# Altium schematic symbol library LVDS bridge.SchLib: 2 symbols
Pins are listed as number, name and electrical type; pins without a type are passive.

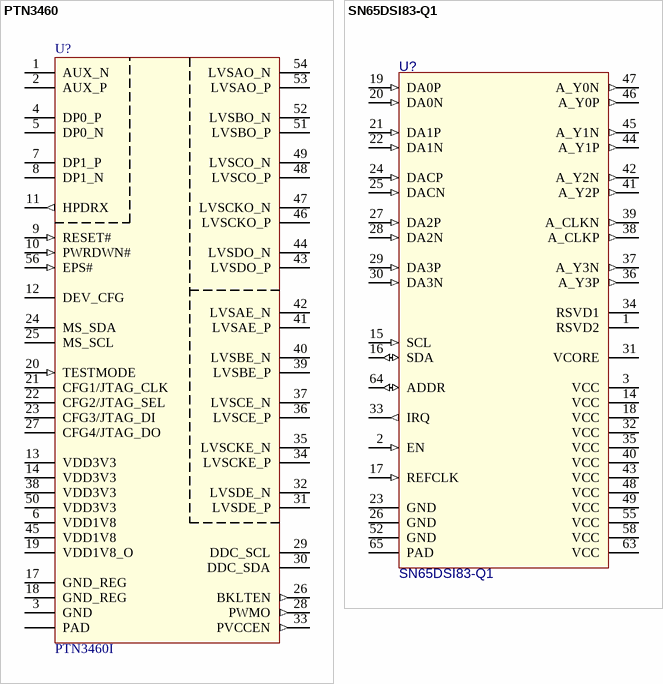
[diagram p0: symbols PTN3460 to SN65DSI83-Q1]

## PTN3460
designator U?, comment PTN3460I
eDP to LVDS bridge for industrial and embedded applications; value: PTN3460I
footprint HVQFN56 (SOT949-2) (Footprint not found)
pins: 1 AUX_N, 2 AUX_P, 3 GND (power), 4 DP0_P, 5 DP0_N, 6 VDD1V8 (power), 7 DP1_P, 8 DP1_N, 9 RESET# (in), 10 PWRDWN# (in), 11 HPDRX (out), 12 DEV_CFG, 13 VDD3V3 (power), 14 VDD3V3 (power), 17 GND_REG (power), 18 GND_REG (power), 19 VDD1V8_O, 20 TESTMODE (in), 21 CFG1/JTAG_CLK, 22 CFG2/JTAG_SEL, 23 CFG3/JTAG_DI, 24 MS_SDA, 25 MS_SCL, 26 BKLTEN (out), 27 CFG4/JTAG_DO, 28 PWMO (out), 29 DDC_SCL, 30 DDC_SDA, 31 LVSDE_P, 32 LVSDE_N, 33 PVCCEN (out), 34 LVSCKE_P, 35 LVSCKE_N, 36 LVSCE_P, 37 LVSCE_N, 38 VDD3V3 (power), 39 LVSBE_P, 40 LVSBE_N, 41 LVSAE_P, 42 LVSAE_N, 43 LVSDO_P, 44 LVSDO_N, 45 VDD1V8 (power), 46 LVSCKO_P, 47 LVSCKO_N, 48 LVSCO_P, 49 LVSCO_N, 50 VDD3V3 (power), 51 LVSBO_P, 52 LVSBO_N, 53 LVSAO_P, 54 LVSAO_N, 56 EPS# (in), PAD

## SN65DSI83-Q1
designator U?
MIPI® DSI Bridge to FlatLink™ LVDS / Single-Channel DSI to Single-Link LVDS Bridge; value: SN65DSI83-Q1
footprint HTQFP-64 (PAP0064Q) (Footprint not found)
pins: 1 RSVD2, 2 EN (in), 3 VCC (power), 14 VCC (power), 15 SCL (in), 16 SDA (io), 17 REFCLK (in), 18 VCC (power), 19 DA0P (in), 20 DA0N (in), 21 DA1P (in), 22 DA1N (in), 23 GND (power), 24 DACP (in), 25 DACN (in), 26 GND (power), 27 DA2P (in), 28 DA2N (in), 29 DA3P (in), 30 DA3N (in), 31 VCORE (power), 32 VCC (power), 33 IRQ (out), 34 RSVD1, 35 VCC (power), 36 A_Y3P (out), 37 A_Y3N (out), 38 A_CLKP (out), 39 A_CLKN (out), 40 VCC (power), 41 A_Y2P (out), 42 A_Y2N (out), 43 VCC (power), 44 A_Y1P (out), 45 A_Y1N (out), 46 A_Y0P (out), 47 A_Y0N (out), 48 VCC (power), 49 VCC (power), 52 GND (power), 55 VCC (power), 58 VCC (power), 63 VCC (power), 64 ADDR (io), 65 PAD (power)